# EAGLE library part MOD5234 (library ARVP)
NetBurner MOD5234
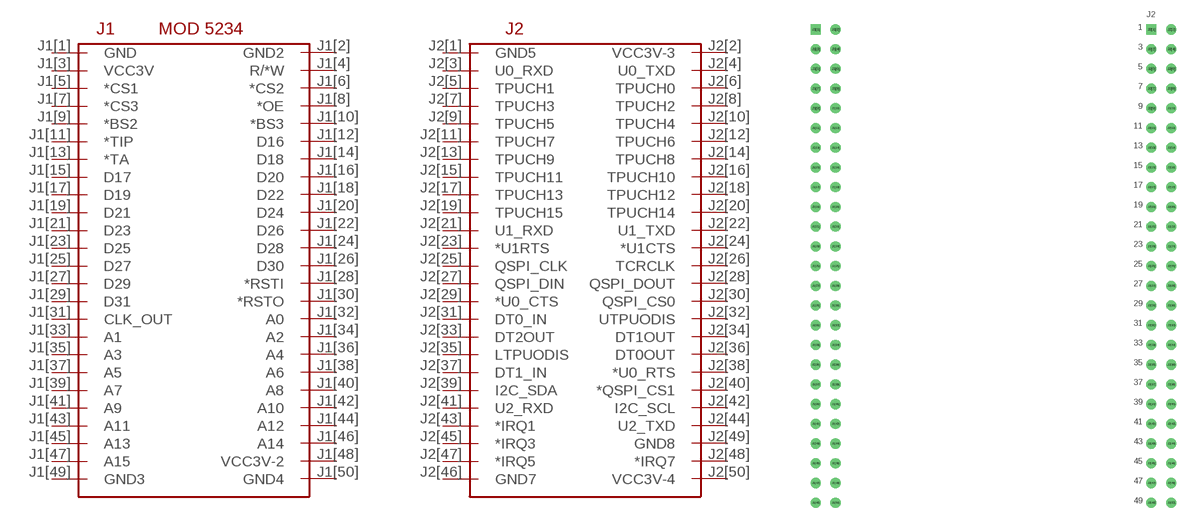
[diagram p8: symbol with the pads of MOD5234; footprint MOD5234]

Designator prefix -

## MOD5234  [MOD5234]
J1[1]  GND
J1[2]  GND2
J1[3]  VCC3V
J1[4]  R/*W
J1[5]  *CS1
J1[6]  *CS2
J1[7]  *CS3
J1[8]  *OE
J1[9]  *BS2
J1[10]  *BS3
J1[11]  *TIP
J1[12]  D16
J1[13]  *TA
J1[14]  D18
J1[15]  D17
J1[16]  D20
J1[17]  D19
J1[18]  D22
J1[19]  D21
J1[20]  D24
J1[21]  D23
J1[22]  D26
J1[23]  D25
J1[24]  D28
J1[25]  D27
J1[26]  D30
J1[27]  D29
J1[28]  *RSTI
J1[29]  D31
J1[30]  *RSTO
J1[31]  CLK_OUT
J1[32]  A0
J1[33]  A1
J1[34]  A2
J1[35]  A3
J1[36]  A4
J1[37]  A5
J1[38]  A6
J1[39]  A7
J1[40]  A8
J1[41]  A9
J1[42]  A10
J1[43]  A11
J1[44]  A12
J1[45]  A13
J1[46]  A14
J1[47]  A15
J1[48]  VCC3V-2
J1[49]  GND3
J1[50]  GND4
J2[1]  GND5
J2[2]  VCC3V-3
J2[3]  U0_RXD
J2[4]  U0_TXD
J2[5]  TPUCH1
J2[6]  TPUCH0
J2[7]  TPUCH3
J2[8]  TPUCH2
J2[9]  TPUCH5
J2[10]  TPUCH4
J2[11]  TPUCH7
J2[12]  TPUCH6
J2[13]  TPUCH9
J2[14]  TPUCH8
J2[15]  TPUCH11
J2[16]  TPUCH10
J2[17]  TPUCH13
J2[18]  TPUCH12
J2[19]  TPUCH15
J2[20]  TPUCH14
J2[21]  U1_RXD
J2[22]  U1_TXD
J2[23]  *U1RTS
J2[24]  *U1CTS
J2[25]  QSPI_CLK
J2[26]  TCRCLK
J2[27]  QSPI_DIN
J2[28]  QSPI_DOUT
J2[29]  *U0_CTS
J2[30]  QSPI_CS0
J2[31]  DT0_IN
J2[32]  UTPUODIS
J2[33]  DT2OUT
J2[34]  DT1OUT
J2[35]  LTPUODIS
J2[36]  DT0OUT
J2[37]  DT1_IN
J2[38]  *U0_RTS
J2[39]  I2C_SDA
J2[40]  *QSPI_CS1
J2[41]  U2_RXD
J2[42]  I2C_SCL
J2[43]  *IRQ1
J2[44]  U2_TXD
J2[45]  *IRQ3
J2[46]  GND7
J2[47]  *IRQ5
J2[48]  *IRQ7
J2[49]  GND8
J2[50]  VCC3V-4

## Footprint MOD5234 (pad centres in mm)
drill 0.8 square: J1[1] -23.368,29.972; J2[1] 19.812,29.972
drill 0.8 round: J1[2] -20.828,29.972; J1[3] -23.368,27.432; J1[4] -20.828,27.432; J1[5] -23.368,24.892; J1[6] -20.828,24.892; J1[7] -23.368,22.352; J1[8] -20.828,22.352; J1[9] -23.368,19.812; J1[10] -20.828,19.812; J1[11] -23.368,17.272; J1[12] -20.828,17.272; J1[13] -23.368,14.732; J1[14] -20.828,14.732; J1[15] -23.368,12.192; J1[16] -20.828,12.192; J1[17] -23.368,9.652; J1[18] -20.828,9.652; J1[19] -23.368,7.112; J1[20] -20.828,7.112; J1[21] -23.368,4.572; J1[22] -20.828,4.572; J1[23] -23.368,2.032; J1[24] -20.828,2.032; J1[25] -23.368,-0.508; J1[26] -20.828,-0.508; J1[27] -23.368,-3.048; J1[28] -20.828,-3.048; J1[29] -23.368,-5.588; J1[30] -20.828,-5.588; J1[31] -23.368,-8.128; J1[32] -20.828,-8.128; J1[33] -23.368,-10.668; J1[34] -20.828,-10.668; J1[35] -23.368,-13.208; J1[36] -20.828,-13.208; J1[37] -23.368,-15.748; J1[38] -20.828,-15.748; J1[39] -23.368,-18.288; J1[40] -20.828,-18.288; J1[41] -23.368,-20.828; J1[42] -20.828,-20.828; J1[43] -23.368,-23.368; J1[44] -20.828,-23.368; J1[45] -23.368,-25.908; J1[46] -20.828,-25.908; J1[47] -23.368,-28.448; J1[48] -20.828,-28.448; J1[49] -23.368,-30.988; J1[50] -20.828,-30.988; J2[2] 22.352,29.972; J2[3] 19.812,27.432; J2[4] 22.352,27.432; J2[5] 19.812,24.892; J2[6] 22.352,24.892; J2[7] 19.812,22.352; J2[8] 22.352,22.352; J2[9] 19.812,19.812; J2[10] 22.352,19.812; J2[11] 19.812,17.272; J2[12] 22.352,17.272; J2[13] 19.812,14.732; J2[14] 22.352,14.732; J2[15] 19.812,12.192; J2[16] 22.352,12.192; J2[17] 19.812,9.652; J2[18] 22.352,9.652; J2[19] 19.812,7.112; J2[20] 22.352,7.112; J2[21] 19.812,4.572; J2[22] 22.352,4.572; J2[23] 19.812,2.032; J2[24] 22.352,2.032; J2[25] 19.812,-0.508; J2[26] 22.352,-0.508; J2[27] 19.812,-3.048; J2[28] 22.352,-3.048; J2[29] 19.812,-5.588; J2[30] 22.352,-5.588; J2[31] 19.812,-8.128; J2[32] 22.352,-8.128; J2[33] 19.812,-10.668; J2[34] 22.352,-10.668; J2[35] 19.812,-13.208; J2[36] 22.352,-13.208; J2[37] 19.812,-15.748; J2[38] 22.352,-15.748; J2[39] 19.812,-18.288; J2[40] 22.352,-18.288; J2[41] 19.812,-20.828; J2[42] 22.352,-20.828; J2[43] 19.812,-23.368; J2[44] 22.352,-23.368; J2[45] 19.812,-25.908; J2[46] 22.352,-25.908; J2[47] 19.812,-28.448; J2[48] 22.352,-28.448; J2[49] 19.812,-30.988; J2[50] 22.352,-30.988